# Altium footprint library Low frequency N32G452RX_20220819-V3.PcbLib: 34 footprints (part 2 of 3)
Each footprint in its own frame and in the unit in brackets; x right, y up, seen from the top. Pads: shape width x height; smd on the part's side, far side on the other; paste and mask are expansions set on the pad; w line width, h text height; cw(c..) or ccw(c..) is an arc to the next point about the centre after c.
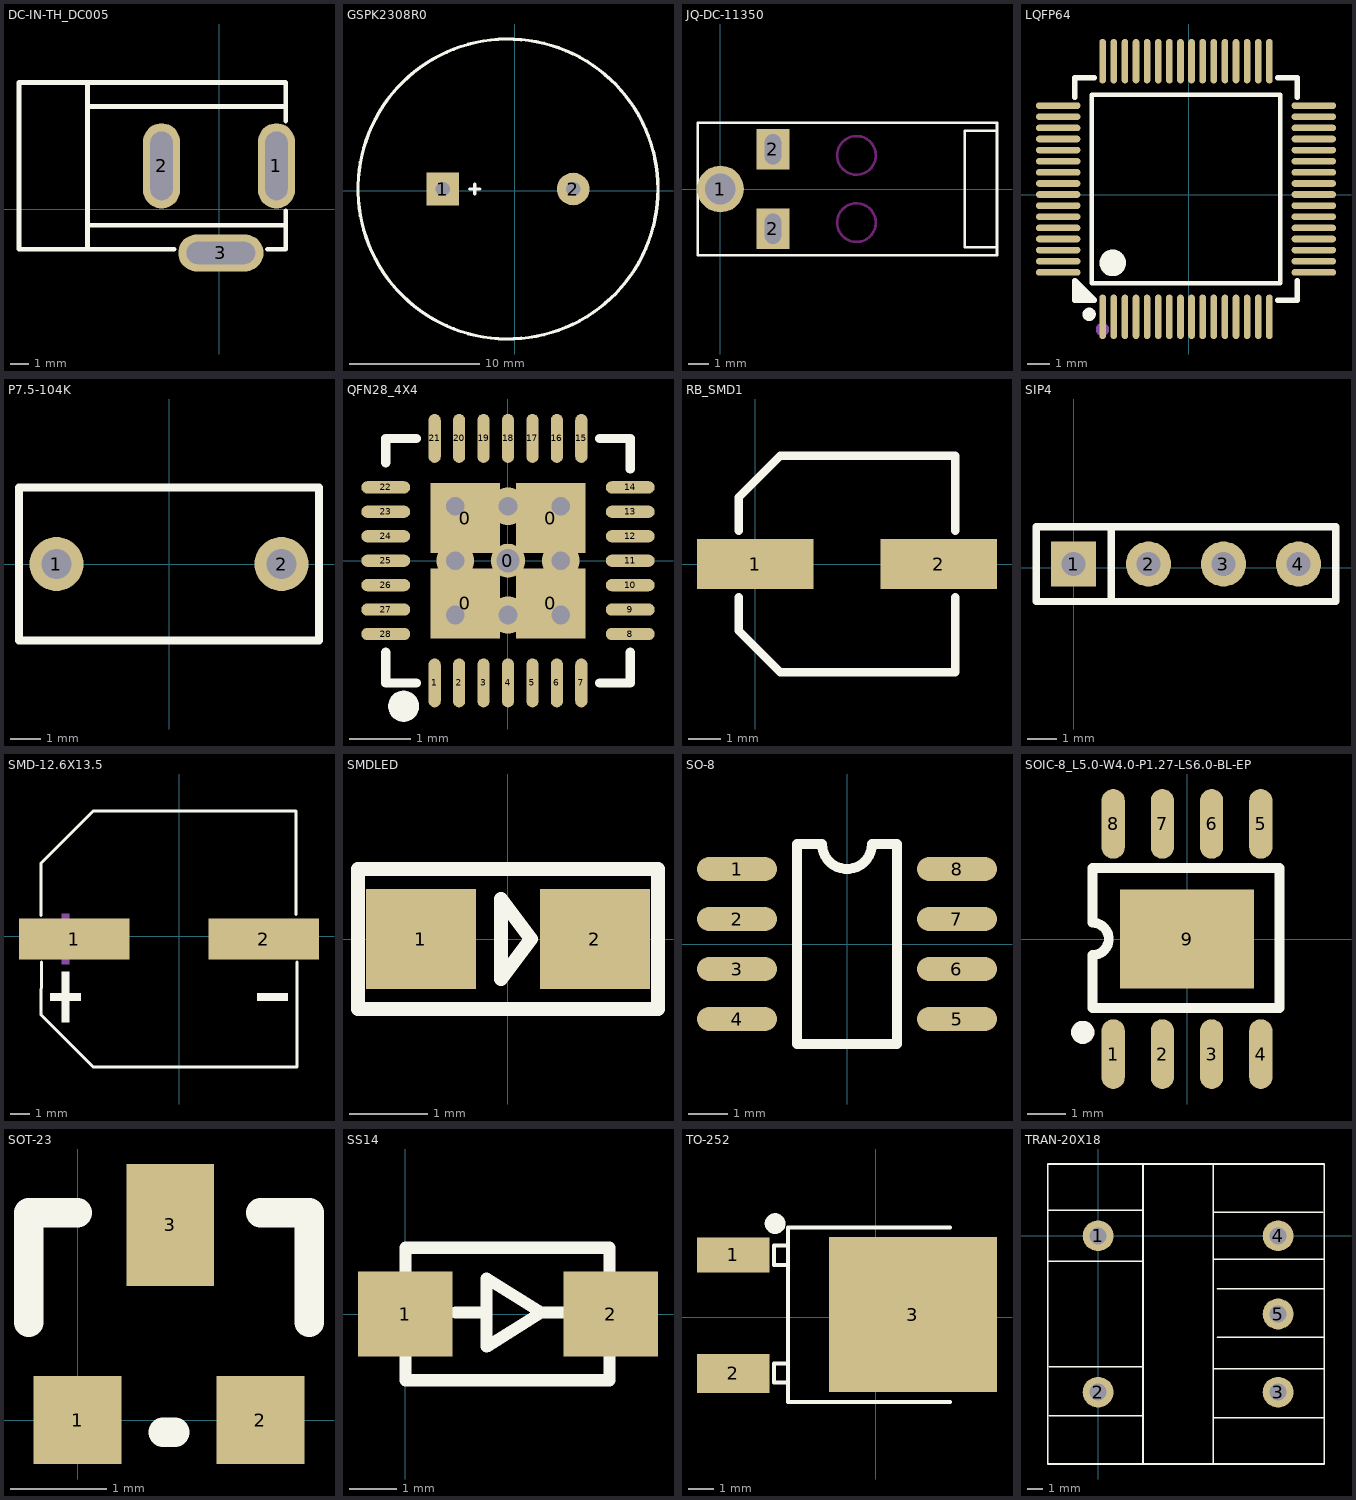
[diagram p1: the footprints below, top view; thin cyan lines are the x and y axes]

## DC-IN-TH_DC005 [mm]
pads (3):
  oval 2x4.6 hole 1.2 slot 3.7 at 90 deg: 1(3.1,2.35) 2(-3.1,2.35)
  oval 4.6x2 hole 1.2 slot 3.7 at 0 deg: 3(0.1,-2.35)
Top Overlay:
  lines w0.254: -7.1,-2.15 -7.1,6.85 ; -7.019,-0.85 3.601,-0.85 ; -7.019,5.55 3.601,5.55 ; -2.415,-2.15 -10.8,-2.15 -10.8,6.85 3.601,6.85 3.601,4.775 ; 2.615,-2.15 3.601,-2.15 3.601,-0.074

## GSPK2308R0 [mm]
height 1.75
pads (2):
  rect 2.5x2.5 hole 1.1: 1(-5.508,0.127)
  round 2.5 hole 1.1: 2(4.492,0.127)
Top Overlay:
  circle w0.254: c-0.508,0.127 r11.5
  lines w0.254: -3.429,0.127 -2.667,0.127 ; -3.048,-0.254 -3.048,0.508

## JQ-DC-11350 [mm]
pads (3):
  round 2.3 hole 1.5: 1(0,0)
  rect 1.6x2 hole 0.8 slot 1.5 at 90 deg: 2(2.58,-1.95) 2(2.58,1.95)
Top Overlay:
  lines w0.127: 13.58,-2.85 12,-2.85 12,2.85 13.58,2.85 ; -1.12,-3.25 -1.12,3.25 13.58,3.25 13.58,-3.25 -1.12,-3.25
Keep-Out Layer:
  circle w0.127: c6.68,1.65 r0.95
  circle w0.127: c6.68,-1.65 r0.95

## LQFP64 [mm]
pads (64):
  oval 0.3x2 smd: 1(-3.877,-5.496) 2(-3.377,-5.496) 3(-2.877,-5.496) 4(-2.377,-5.496) 5(-1.877,-5.496) 6(-1.377,-5.496) 7(-0.877,-5.496) 8(-0.377,-5.496) 9(0.123,-5.496) 10(0.623,-5.496) 11(1.123,-5.496) 12(1.623,-5.496) 13(2.123,-5.496) 14(2.623,-5.496) 15(3.123,-5.496) 16(3.623,-5.496) 33(3.623,6.004) 34(3.123,6.004) 35(2.623,6.004) 36(2.123,6.004) 37(1.623,6.004) 38(1.123,6.004) 39(0.623,6.004) 40(0.123,6.004) 41(-0.377,6.004) 42(-0.877,6.004) 43(-1.377,6.004) 44(-1.877,6.004) 45(-2.377,6.004) 46(-2.877,6.004) 47(-3.377,6.004) 48(-3.877,6.004)
  oval 2x0.3 smd: 17(5.623,-3.496) 18(5.623,-2.996) 19(5.623,-2.496) 20(5.623,-1.996) 21(5.623,-1.496) 22(5.623,-0.996) 23(5.623,-0.496) 24(5.623,0.004) 25(5.623,0.504) 26(5.623,1.004) 27(5.623,1.504) 28(5.623,2.004) 29(5.623,2.504) 30(5.623,3.004) 31(5.623,3.504) 32(5.623,4.004) 49(-5.877,4.004) 50(-5.877,3.504) 51(-5.877,3.004) 52(-5.877,2.504) 53(-5.877,2.004) 54(-5.877,1.504) 55(-5.877,1.004) 56(-5.877,0.504) 57(-5.877,0.004) 58(-5.877,-0.496) 59(-5.877,-0.996) 60(-5.877,-1.496) 61(-5.877,-1.996) 62(-5.877,-2.496) 63(-5.877,-2.996) 64(-5.877,-3.496)
Top Overlay:
  region: -4.258,-4.746 -5.127,-3.877 -5.127,-4.746
  lines w0.2: -4.377,-3.996 -4.377,4.504 4.123,4.504 4.123,-3.996 -4.377,-3.996
  lines w0.254: -5.127,4.385 -5.127,5.254 -4.258,5.254 ; 4.004,-4.746 4.873,-4.746 4.873,-3.877 ; 4.004,5.254 4.873,5.254 4.873,4.385 ; -5.127,-3.877 -5.127,-3.877 ; -5.127,-3.877 -4.258,-4.746 -5.127,-4.746 -5.127,-3.877
  lines w0.3: -4.488,-5.236 ccw(c-4.487,-5.386) -4.486,-5.236
  lines w0.6: -3.426,-2.771 ccw(c-3.424,-3.071) -3.421,-2.771
Mechanical 15:
  circle w0.3: c-3.887,-6.066 r0.15

## P7.5-104K [mm]
pads (2):
  round 1.8 hole 1: 1(-3.75,0) 2(3.75,0)
Top Overlay:
  lines w0.254: -5,-2.55 -5,2.55 5,2.55 5,-2.55 -5,-2.55

## QFN28_4X4 [mm]
pads (33):
  rect 1.143x1.143 smd: 0(-0.699,-0.699) 0(-0.699,0.698) 0(0.699,-0.699) 0(0.699,0.698)
  round 0.559 hole 0.381: 0(0,0)
  oval 0.2x0.8 smd: 1(-1.2,-2) 2(-0.8,-2) 3(-0.4,-2) 4(0,-2) 5(0.4,-2) 6(0.8,-2) 7(1.2,-2) 15(1.2,2) 16(0.8,2) 17(0.4,2) 18(0,2) 19(-0.4,2) 20(-0.8,2) 21(-1.2,2)
  oval 0.8x0.2 smd: 8(2,-1.2) 9(2,-0.8) 10(2,-0.4) 11(2,0) 12(2,0.4) 13(2,0.8) 14(2,1.2) 22(-2,1.2) 23(-2,0.8) 24(-2,0.4) 25(-2,0) 26(-2,-0.4) 27(-2,-0.8) 28(-2,-1.2)
via -0.864,-0.889 diameter 0.61 hole 0.305
via 0.864,-0.889 diameter 0.61 hole 0.305
via 0.864,0.889 diameter 0.61 hole 0.305
via -0.864,0.889 diameter 0.61 hole 0.305
via -0.864,0 diameter 0.61 hole 0.305
via 0.864,0 diameter 0.61 hole 0.305
via 0,-0.889 diameter 0.61 hole 0.305
via 0,0.889 diameter 0.61 hole 0.305
Top Overlay:
  circle w0.254: c-1.708,-2.381 r0.127
  lines w0.152: -2,-1.5 -2,-2 -1.5,-2 ; -2,1.6 -2,2 -1.5,2 ; 1.5,-2 2,-2 2,-1.5 ; 1.5,2 2,2 2,1.5

## RB_SMD1 [mil]
pads (2):
  rect 140x60 smd: 1(0,0) 2(220,0)
Top Overlay:
  lines w10: -20,-40 -20,-80 30,-130 240,-130 240,-40 ; -20,40 -20,80 30,130 240,130 240,40

## SIP4 [mil]
pads (4):
  rect 60x60 hole 32: 1(0,5)
  round 60 hole 32: 2(100,5) 3(200,5) 4(300,5)
Top Overlay:
  lines w10: 50,-45 50,55 ; -50,-45 -50,55 350,55 350,-45 -50,-45

## SMD-12.6X13.5 [mm]
pads (2):
  rect 5.6x2.1 smd: 1(-5.303,-0.127) 2(4.287,-0.127)
Top Overlay:
  region: -5.948,-4.351 -5.564,-4.351 -5.564,-1.791 -5.948,-1.791
  region: 3.972,-3.263 5.508,-3.263 5.508,-2.879 3.972,-2.879
  region: -6.524,-3.263 -4.988,-3.263 -4.988,-2.879 -6.524,-2.879
  lines w0.152: -6.989,1.054 -6.984,3.713 -4.348,6.349 5.918,6.349 5.918,1.118 ; -6.964,-1.304 -6.984,-3.967 -4.348,-6.603 5.968,-6.603 5.961,-1.283
Mechanical 15:
  region: -5.948,-1.407 -5.564,-1.407 -5.564,1.153 -5.948,1.153
  region: 3.972,-0.319 5.508,-0.319 5.508,0.065 3.972,0.065
  region: -6.524,-0.319 -4.988,-0.319 -4.988,0.065 -6.524,0.065

## SMDLED [mm]
pads (2):
  rect 1.4x1.27 smd: 1(-1.105,0) 2(1.105,0)
Top Overlay:
  lines w0.178: 1.906,0.889 1.905,0.889 ; 1.905,0.889 1.905,-0.889 -1.905,-0.889 -1.905,0 -1.905,0.889 1.905,0.889 ; -0.089,-0.508 -0.089,0.508 0.292,0 -0.089,-0.508

## SO-8 [mil]
pads (8):
  oval 80x24 smd: 1(-110,75) 2(-110,25) 3(-110,-25) 4(-110,-75) 5(110,-75) 6(110,-25) 7(110,25) 8(110,75)
Top Overlay:
  lines w10: -50,-100 50,-100 50,100 25,100 cw(c0,100) -25,100 -50,100 -50,-100

## SOIC-8_L5.0-W4.0-P1.27-LS6.0-BL-EP [mm]
pads (9):
  oval 0.6x1.8 smd: 1(-1.905,-2.972) 2(-0.635,-2.972) 3(0.635,-2.972) 4(1.905,-2.972) 5(1.905,2.972) 6(0.635,2.972) 7(-0.635,2.972) 8(-1.905,2.972)
  rect 3.45x2.56 smd: 9(0,0)
Top Overlay:
  lines w0.254: -2.438,-1.778 2.388,-1.778 2.388,1.829 -2.413,1.829 -2.438,1.829 -2.438,0.42 cw(c-2.438,0.002) -2.438,-0.417 -2.438,-1.778
  lines w0.3: -2.692,-2.261 ccw(c-2.691,-2.411) -2.69,-2.261

## SOT-23 [mil]
pads (3):
  rect 36x36 smd: 1(0,0) 2(75,0)
  rect 36x50 smd: 3(38,80)
Top Overlay:
  lines w12: -20,40 -20,85 0,85 ; 35,-5 40,-5 ; 75,85 95,85 95,40

## SS14 [mm]
pads (2):
  rect 2x1.8 smd: 1(0,0) 2(4.34,0)
Top Overlay:
  lines w0.254: 1.06,0.03 1.7,0.03 ; 2.415,1.4 4.32,1.4 ; 3.38,0.03 2.87,0.03 ; 4.32,-0.886 4.32,1.4 ; 2.87,0.03 1.72,-0.69 1.72,0.75 2.87,0.03 ; 4.32,1.4 4.32,-1.4 0,-1.4 0,1.4 4.32,1.4

## TO-252 [mm]
pads (3):
  rect 2.8x1.35 smd: 1(-5.507,2.417)
  rect 2.8x1.5 smd: 2(-5.507,-2.163)
  rect 6.5x6 smd: 3(1.443,0.11)
Top Overlay:
  lines w0.152: -3.38,-2.508 -3.38,-2.518 -3.936,-2.518 -3.936,-1.776 -3.38,-1.776 ; -3.38,2.043 -3.38,2.032 -3.936,2.032 -3.936,2.774 -3.38,2.774 ; 2.871,-3.266 -3.381,-3.266 -3.381,3.486 2.871,3.486
  lines w0.4: -3.889,3.429 cw(c-3.888,3.629) -3.886,3.429
Mechanical 15:
  circle w0.5: c-6.197,2.413 r0.25

## TRAN-20X18 [mm]
height 1.75
pads (5):
  round 2 hole 1.1: 1(0,0) 2(0,-10.16) 3(11.7,-10.16) 4(11.7,0) 5(11.7,-5.08)
Top Overlay:
  lines w0.1: -3.285,-1.651 2.921,-1.651 ; -3.285,1.651 2.921,1.651 ; -3.158,-11.684 2.921,-11.684 ; -3.158,-8.509 2.921,-8.509 ; 2.921,-14.83 2.921,4.67 ; 7.493,-14.83 7.493,4.67 ; 7.493,-11.811 14.715,-11.811 ; 7.493,-8.636 14.715,-8.636 ; 7.493,-1.524 14.715,-1.524 ; 7.493,1.524 14.588,1.524 ; 7.747,-6.604 14.715,-6.604 ; 7.747,-3.429 14.715,-3.429 ; -3.285,-14.83 14.715,-14.83 14.715,4.67 -3.285,4.67 -3.285,-14.83